# EAGLE library part TEXAS_INSTRUMENTS-BOOST_CONTROLLER-LM3488_DGK_8 (library Module_Regulators)
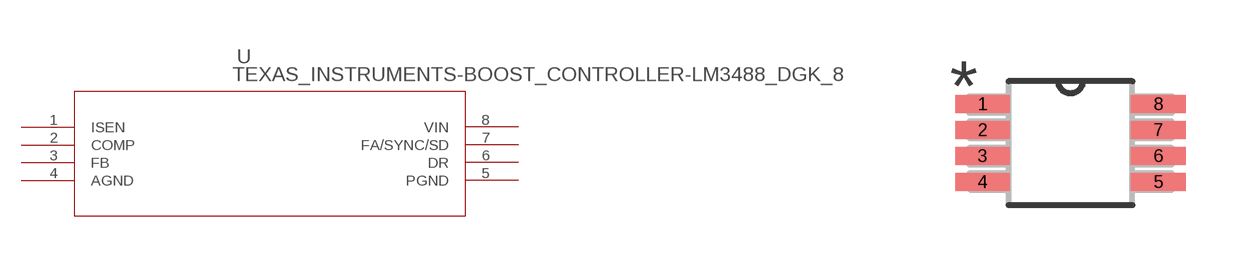
[diagram p40: symbol with the pads of TEXAS_INSTRUMENTS-BOOST_CONTROLLER-LM3488_DGK_8; footprint TEXAS_INSTRUMENTS-BOOST_CONTROLLER-LM3488_DGK_8]

Designator prefix -

## TEXAS_INSTRUMENTS-BOOST_CONTROLLER-LM3488_DGK_8 (MANUFACTURER_PART_NUMBER: lm3488mmnopb; VENDOR: National)  [TEXAS_INSTRUMENTS-BOOST_CONTROLLER-LM3488_DGK_8]
1  ISEN  in
2  COMP  pas
3  FB  in
4  AGND  pwr
5  PGND  pwr
6  DR  out
7  FA/SYNC/SD  in
8  VIN  pwr

## Footprint TEXAS_INSTRUMENTS-BOOST_CONTROLLER-LM3488_DGK_8 (pad centres in mm)
smd 1.372 x 0.457: 1 -2.197,0.975; 2 -2.197,0.325; 3 -2.197,-0.325; 4 -2.197,-0.975; 5 2.197,-0.975; 6 2.197,-0.325; 7 2.197,0.325; 8 2.197,0.975